# Altium schematic symbol library Capacitor.SchLib: 22 symbols
Pins are listed as number, name and electrical type; pins without a type are passive.

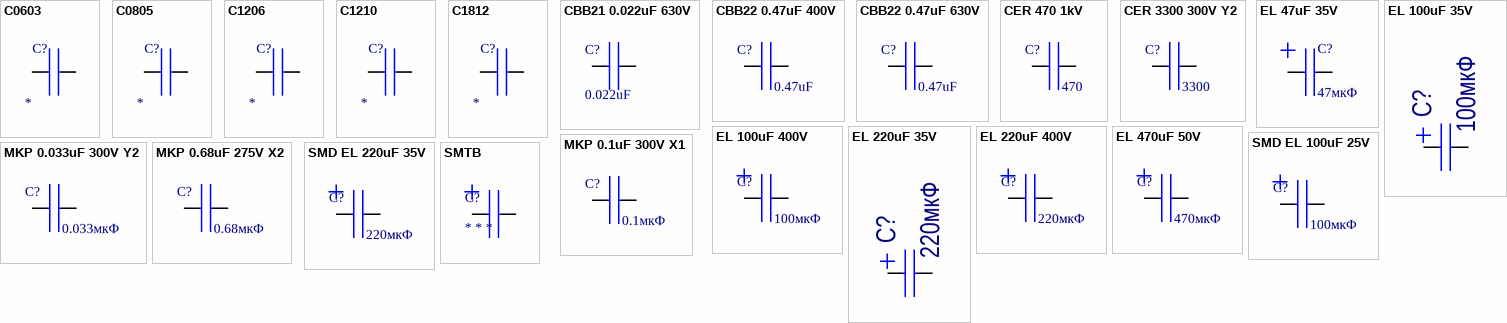
[diagram p0: symbols C0603 to SMTB]

## C0603
designator C?
Voltage: 50В; ComponentDescription: SMD0603 50В * X7R; ComponentType: X7R; Value: *
footprint CAP0603 (Chip Capacitor, 2-Leads, Body 1,60x0,83mm, IPC Medium Density)
pins: 1, 2

## C0805
designator C?
Voltage: 50В; ComponentDescription: SMD0805 50В * X7R; ComponentType: X7R; Value: *
footprint CAP0805 (Chip Capasitor, 2-Leads, Body 2,00x1,25mm, IPC Medium Density)
pins: 1, 2

## C1206
designator C?
Voltage: 50В; ComponentDescription: SMD1206 50В * X7R; ComponentType: X7R; Value: *
footprint CAP1206 (Chip Capasitor, 2-Leads, Body 3,20x1,60mm, IPC Medium Density)
pins: 1, 2

## C1210
designator C?
Voltage: 50В; ComponentDescription: SMD1210 50В * X7R; ComponentType: X7R; Value: *
footprint CAP1210 (Chip Capacitor, Body 3.2x2.5mm, IPC Medium Density)
pins: 1, 2

## C1812
designator C?
Voltage: 50В; ComponentDescription: SMD181250В * X7R; ComponentType: X7R; Value: *
footprint CAP1812 (Chip Capacitor, 2-Leads, Body 4,50x3,20mm, IPC Medium Density)
pins: 1, 2

## CBB21 0.022uF 630V
designator C?, comment value 0.022uF  (hidden comment: 0.022uF 630В 10мм)
ComponentDescription: CBB21 630В 0.022uF 10мм; Voltage: 630В; ComponentType: 10мм
footprint CAP12X5 P10
pins: 1, 2

## CBB22 0.47uF 400V
designator C?, comment value 0.47uF  (hidden comment: 0.47uF 400В 15мм)
ComponentDescription: CBB22 400В 0.47uF 15мм; Voltage: 400В; ComponentType: 15мм
footprint CAP18X9X15mm
pins: 1, 2

## CBB22 0.47uF 630V
designator C?, comment value 0.47uF  (hidden comment: 0.47uF 630В 19мм)
ComponentDescription: CBB22 630В 0.47uF 19мм; Voltage: 630В; ComponentType: 19мм
footprint CAP23X9X19mm
pins: 1, 2

## CER 470 1kV
designator C?, comment value 470  (hidden comment: 470 1кВ 5мм)
ComponentDescription: Керамический 1кВ 470 5мм; Voltage: 1кВ; ComponentType: 5мм
footprint RX600Y200P400,300,200
pins: 1, 2

## CER 3300 300V Y2
designator C?, comment value 3300  (hidden comment: 3300 300В Y2)
ComponentDescription: Керамический 300В 3300 Y2; Voltage: 300В; ComponentType: Y2
footprint RX450Y200P400
pins: 1, 2

## EL 47uF 35V
designator C?, comment value 47мкФ  (hidden comment: 47мкФ 35В EXR)
ComponentDescription: Электролит. 35В 47мкФ EXR; Voltage: 35В; ComponentType: EXR
footprint PCAP D=6.3 P=2.5
pins: 1 +, 2

## EL 100uF 35V
designator C?, comment value 100мкФ  (hidden comment: 100мкФ 35В EXR)
ComponentDescription: Электролит. 35В 100мкФ EXR; Voltage: 35В; ComponentType: EXR
footprint PCAP D8 H16 P3.5
pins: 1 +, 2 -

## EL 100uF 400V
designator C?, comment value 100мкФ  (hidden comment: 100мкФ 400В)
ComponentDescription: Электролит. 400В 100мкФ; Voltage: 400В
footprint EX800Y800P400
pins: 1 +, 2

## EL 220uF 35V
designator C?, comment value 220мкФ  (hidden comment: 220мкФ 35В EXR)
ComponentDescription: Электролит. 35В 220мкФ EXR; Voltage: 35В; ComponentType: EXR
footprint PCAP D10
pins: 1 +, 2 -

## EL 220uF 400V
designator C?, comment value 220мкФ  (hidden comment: 220мкФ 400В)
ComponentDescription: Электролит. 400В 220мкФ; Voltage: 400В
footprint EX1000Y1000P400
pins: 1 +, 2

## EL 470uF 50V
designator C?, comment value 470мкФ  (hidden comment: 470мкФ 50В EXR)
ComponentDescription: Электролит. 50В 470мкФ EXR; Voltage: 50В; ComponentType: EXR
footprint POLCAP D13
pins: 1 +, 2

## MKP 0.1uF 300V X1
designator C?, comment value 0.1мкФ  (hidden comment: 0.1мкФ 300В X1)
ComponentDescription: MKP 300В 0.1мкФ X1; Voltage: 300В; ComponentType: X1
footprint CAP18x13x6 15mm
pins: 1, 2

## MKP 0.033uF 300V Y2
designator C?, comment value 0.033мкФ  (hidden comment: 0.033мкФ 300В Y2)
ComponentDescription: MKP 300В 0.033мкФ Y2; Voltage: 300В; ComponentType: Y2
footprint CAP18X17.5X9 15mm
pins: 1, 2

## MKP 0.68uF 275V X2
designator C?, comment value 0.68мкФ  (hidden comment: 0.68мкФ 275В X2)
ComponentDescription: MKP 275В 0.68мкФ X2; Voltage: 275В; ComponentType: X2
footprint CAP26X12X16,23mm
pins: 1, 2

## SMD EL 100uF 25V
designator C?, comment value 100мкФ  (hidden comment: 100мкФ 25В EZV)
ComponentDescription: Электролит. 25В 100мкФ EZV; Voltage: 25В; ComponentType: EZV
footprint CAPAE7367X80M (Aluminum Electrolytic Capacitor, Body 6,70x6,70x8,00mm, IPC Low Density)
pins: 1 +, 2

## SMD EL 220uF 35V
designator C?, comment value 220мкФ  (hidden comment: 220мкФ 35В EZV)
ComponentDescription: Электролит. 35В 220мкФ EZV; Voltage: 35В; ComponentType: EZV
footprint CAPAE9185X108M (Aluminum Electrolytic Capacitor, Body 8,50x8,50x10,80mm, IPC Low Density)
pins: 1 +, 2

## SMTB
designator C?, comment * * *
ComponentDescription: SMTB * * *; ComponentType: *; Voltage: *; Value: *
footprint CAPCP3529X22N (Chip Capacitor, 2-Leads, Body 3,50x2,88mm, IPC Medium Density)
pins: 1 +, 2